# Altium footprint library Train2.PCBLIB: 223 footprints (part 6 of 14)
Each footprint in its own frame and in the unit in brackets; x right, y up, seen from the top. Pads: shape width x height; smd on the part's side, far side on the other; paste and mask are expansions set on the pad; w line width, h text height; cw(c..) or ccw(c..) is an arc to the next point about the centre after c.
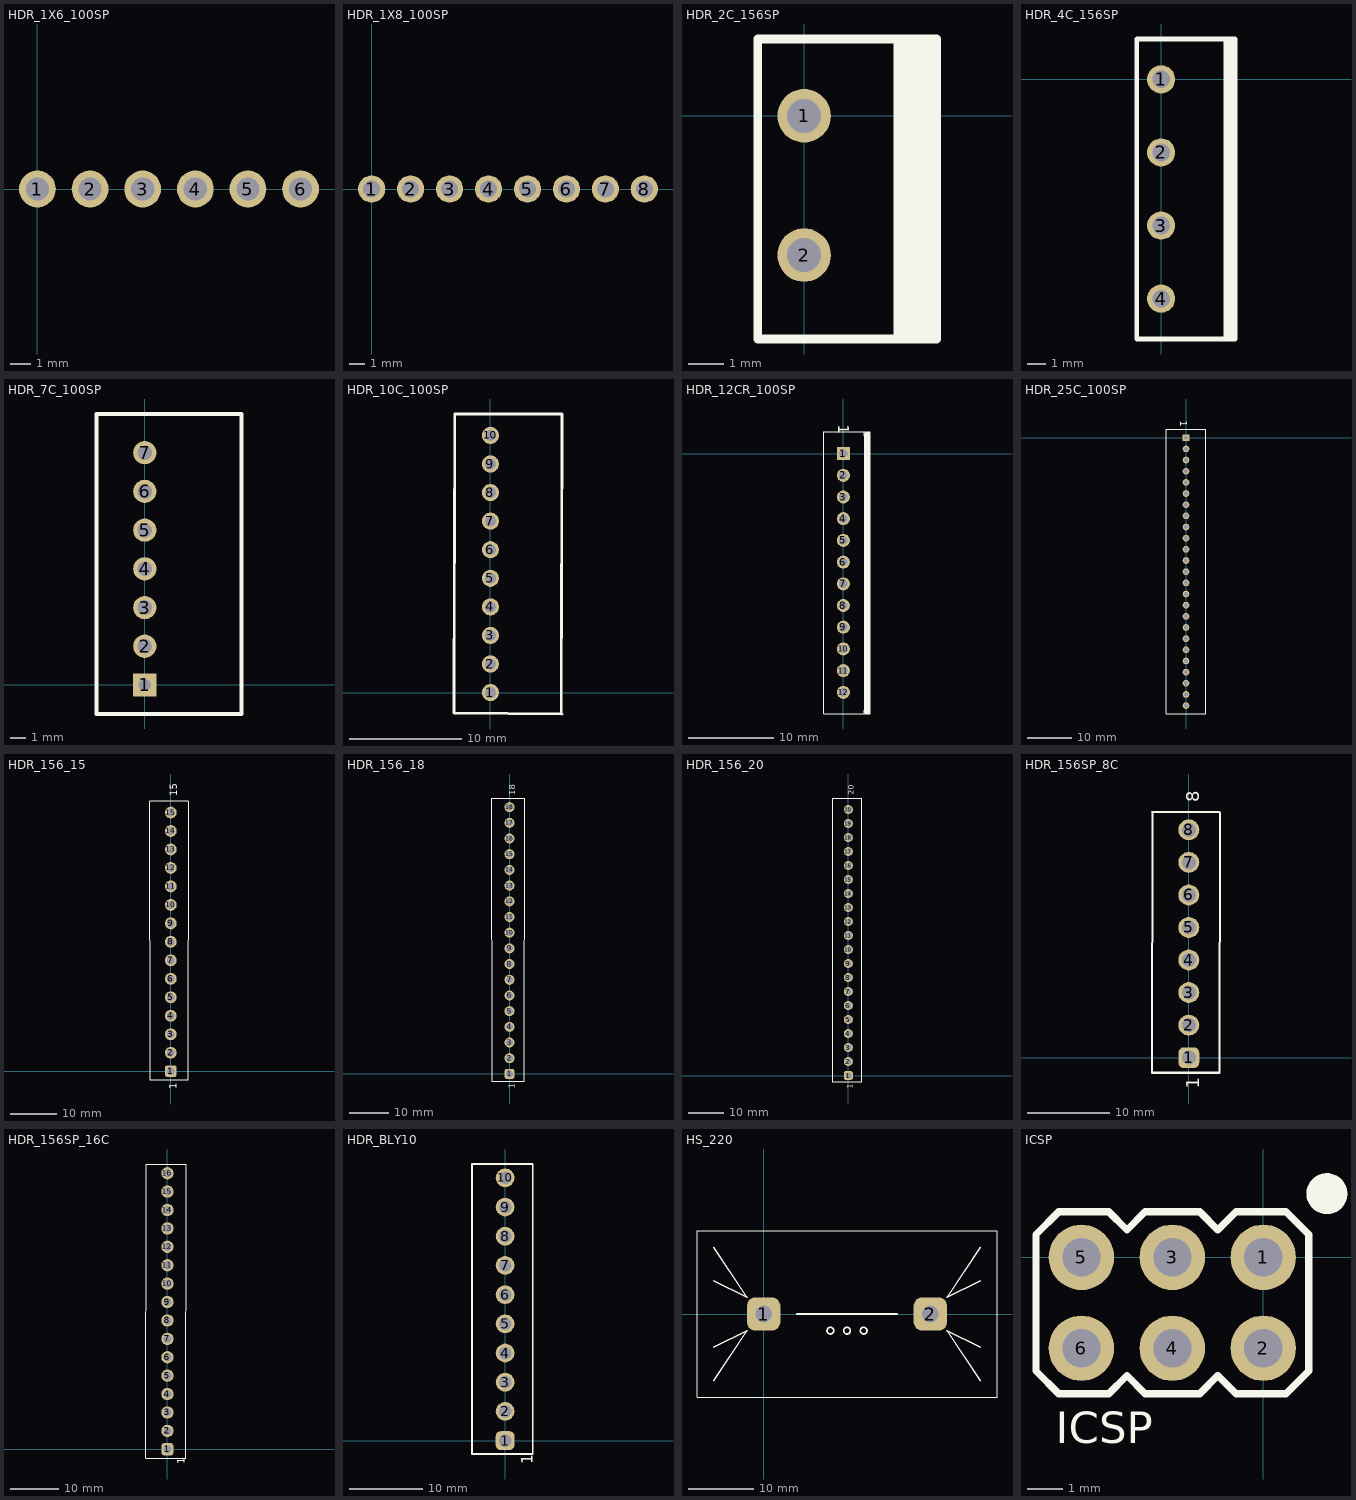
[diagram p5: the footprints below, top view; thin cyan lines are the x and y axes]

## HDR_1X6_100SP [mil] "Connector; Header; 6 Position"
height 51.18
pads (6):
  round 70 hole 44: 1(0,0) 2(100,0) 3(200,0) 4(300,0) 5(400,0) 6(500,0)

## HDR_1X8_100SP [mil] "Connector; Header; 8 Position"
pads (8):
  round 70 hole 44: 1(0,0) 2(100,0) 3(200,0) 4(300,0) 5(400,0) 6(500,0) 7(600,0) 8(700,0)

## HDR_2C_156SP [mil]
pads (2):
  round 60 hole 38: 1(0,0) 2(0,-156)
Top Overlay:
  rectangle: 100,-250 148,86
  lines w10: -52,-250 148,-250 148,86 -52,86 -52,-250

## HDR_4C_156SP [mil]
pads (4):
  round 60 hole 38: 1(0,0) 2(0,-156) 3(0,-312) 4(0,-468)
Top Overlay:
  lines w10: 138,-554 138,-539 ; 138,74 138,86 ; 158,-514 158,-554 -52,-554 -52,86 158,86 158,70
  lines w30: 148,-540 148,75

## HDR_7C_100SP [mil]
pads (7):
  rect 60x60 hole 32: 1(0,0)
  round 60 hole 38: 2(0,100) 3(0,200) 4(0,300) 5(0,400) 6(0,500) 7(0,600)
Top Overlay:
  lines w10: -125,-75 250,-75 ; -125,-72 -125,700 250,700 250,-72

## HDR_10C_100SP [mil]
pads (10):
  round 60 hole 38: 1(0,0) 2(0,100) 3(0,200) 4(0,300) 5(0,400) 6(0,500) 7(0,600) 8(0,700) 9(0,800) 10(0,900)
Top Overlay:
  lines w10: 248,-72 250,975 -125,975 -127,-72 250,-75

## HDR_12CR_100SP [mil]
pads (12):
  rect 60x60 hole 38: 1(0,0)
  round 60 hole 38: 2(0,-100) 3(0,-200) 4(0,-300) 5(0,-400) 6(0,-500) 7(0,-600) 8(0,-700) 9(0,-800) 10(0,-900) 11(0,-1000) 12(0,-1100)
Top Overlay:
  lines w5: 96.5,-1183 96.5,-1200 103.5,-1200 ; 96.5,82 96.5,100 107,100 ; 123.5,-1183.5 123.5,-1200 121,-1200 -90,-1200 -90,100 115,100 123.5,100 123.5,82.5
  lines w32: 110,-1186 110,86.5
  text "1" at -24,132.5 h50

## HDR_25C_100SP [mil]
pads (25):
  rect 60x60 hole 35: 1(0,0)
  round 60 hole 38: 2(0,-100) 3(0,-200) 4(0,-300) 5(0,-400) 6(0,-500) 7(0,-600) 8(0,-700) 9(0,-800) 10(0,-900) 11(0,-1000) 12(0,-1100) 13(0,-1200) 14(0,-1300) 15(0,-1400) 16(0,-1500) 17(0,-1600) 18(0,-1700) 19(0,-1800) 20(0,-1900) 21(0,-2000) 22(0,-2100) 23(0,-2200) 24(0,-2300) 25(0,-2400)
Top Overlay:
  lines w10: -175,-2475 175,-2475 175,75 -175,75 -175,-2475
  text "1" at -50,150 h62.5

## HDR_156_15 [mil]
pads (15):
  rrect50% 100x100 hole 67: 1(0,0)
  round 100 hole 67: 2(0,156) 3(0,312) 4(0,468) 5(0,624) 6(0,780) 7(0,936) 8(0,1092) 9(0,1248) 10(0,1404) 11(0,1560) 12(0,1716) 13(0,1872) 14(0,2028) 15(0,2184)
Top Overlay:
  lines w10: -180,2280 -177,-72 148,-72 150,2280 ; -177,2283 148,2283
  text "1" at 50,-150 h62.5
  text "15" at 55,2320 h62.5

## HDR_156_18 [mil]
pads (18):
  rrect50% 100x100 hole 67: 1(0,0)
  round 100 hole 67: 2(0,156) 3(0,312) 4(0,468) 5(0,624) 6(0,780) 7(0,936) 8(0,1092) 9(0,1248) 10(0,1404) 11(0,1560) 12(0,1716) 13(0,1872) 14(0,2028) 15(0,2184) 16(0,2340) 17(0,2496) 18(0,2652)
Top Overlay:
  lines w10: -180,2740 -177,-72 148,-72 150,2740 ; -177,2743 148,2743
  text "1" at 50,-150 h62.5
  text "18" at 55,2770 h62.5

## HDR_156_20 [mil]
pads (20):
  rrect50% 100x100 hole 67: 1(0,0)
  round 100 hole 67: 2(0,156) 3(0,312) 4(0,468) 5(0,624) 6(0,780) 7(0,936) 8(0,1092) 9(0,1248) 10(0,1404) 11(0,1560) 12(0,1716) 13(0,1872) 14(0,2028) 15(0,2184) 16(0,2340) 17(0,2496) 18(0,2652) 19(0,2808) 20(0,2964)
Top Overlay:
  lines w10: -180,3090 -177,-72 148,-72 150,3090 ; -177,3088 148,3088
  text "20" at 60,3130 h62.5
  text "1" at 50,-150 h62.5

## HDR_156SP_8C [mil]
pads (8):
  rrect50% 100x100 hole 67: 1(0,0)
  round 100 hole 67: 2(0,156) 3(0,312) 4(0,468) 5(0,624) 6(0,780) 7(0,936) 8(0,1092)
Top Overlay:
  lines w10: -177,1178 148,1178 ; -175,1175 -177,-72 148,-72 150,1175
  text "8" at 50,1225 h62.5
  text "1" at 50,-150 h62.5

## HDR_156SP_16C [mil]
pads (16):
  rrect50% 100x100 hole 67: 1(0,0)
  round 100 hole 67: 2(0,150) 3(0,300) 4(0,450) 5(0,600) 6(0,750) 7(0,900) 8(0,1050) 9(0,1200) 10(0,1350) 11(0,1500) 12(0,1650) 13(0,1800) 14(0,1950) 15(0,2100) 16(0,2250)
Top Overlay:
  lines w10: -177,-72 -173.16,2325 151.84,2325 148,-72 -177,-72
  text "1" at 140,-120 h62.5

## HDR_BLY10 [mil]
pads (10):
  rrect50% 100x100 hole 67: 1(0,0)
  round 100 hole 67: 2(0,156) 3(0,312) 4(0,468) 5(0,624) 6(0,780) 7(0,936) 8(0,1092) 9(0,1248) 10(0,1404)
Top Overlay:
  lines w10: -177,-72 148,-72 148,1478 -177,1478 -177,-72
  text "1" at 148,-125 h60

## HS_220 [mil]
pads (2):
  rrect50% 200x200 hole 100: 1(0,0) 2(1000,0)
Top Overlay:
  circle w10: c500,-100 r20
  circle w10: c600,-100 r20
  circle w10: c400,-100 r20
  lines w5: -400,-500 1400,-500 1400,500 -400,500 -400,-500
  lines w10: -300,-400 -100,-100 -300,-200 ; -300,200 -100,100 -300,400 ; 200,0 800,0 ; 1300,-400 1100,-100 1300,-200 ; 1300,200 1100,100 1300,400

## ICSP [mil]
pads (6):
  round 72 hole 42: 1(0,0) 2(0,-100) 3(-100,0) 4(-100,-100) 5(-200,0) 6(-200,-100)
Top Overlay:
  circle w25: c70,70 r10
  lines w8: -250,-125 -225,-150 -170,-150 -150,-130 -130,-150 -70,-150 -50,-130 -30,-150 25,-150 50,-125 50,25 25,50 -30,50 -50,30 -70,50 -130,50 -150,30 -170,50 -225,50 -250,25 -250,-125
  text "ICSP" at -228.35,-204.72 h35